# Altium footprint library SO.PcbLib: 10 footprints
Each footprint in its own frame and in the unit in brackets; x right, y up, seen from the top. Pads: shape width x height; smd on the part's side, far side on the other; paste and mask are expansions set on the pad; w line width, h text height; cw(c..) or ccw(c..) is an arc to the next point about the centre after c.
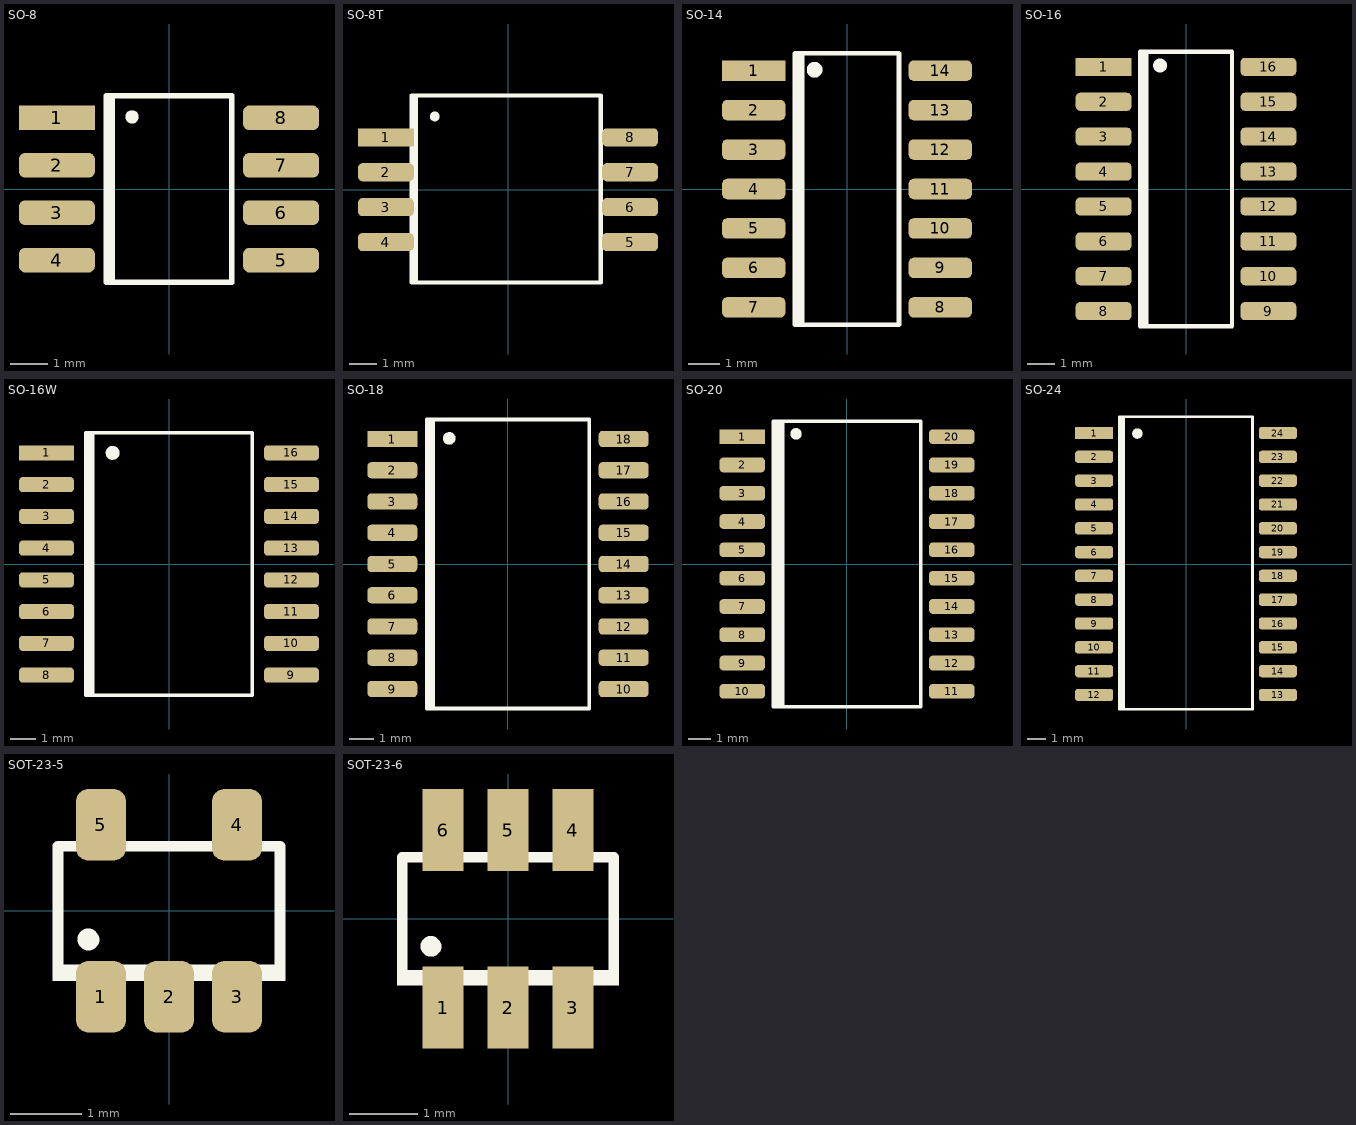
[diagram p0: the footprints below, top view; thin cyan lines are the x and y axes]

## SO-8 [mil]
pads (8):
  rect 80x26 smd: 1(-118.11,75)
  rrect50% 80x26 smd: 2(-118.11,25) 3(-118.11,-25) 4(-118.11,-75) 5(118.11,-75) 6(118.11,-25) 7(118.11,25) 8(118.11,75)
Top Overlay:
  circle w10: c-39,76 r2
  rectangle: -66,-98.43 -57,98.43
  lines w6: -66,-98.43 66,-98.43 66,98.43 -66,98.43 -66,-98.43
3D body: height 67.91, standoff -1.51, extent -120.8,-96.26 120.81,96.26

## SO-8T [mil]
pads (8):
  rect 80x26 smd: 1(-175,75)
  rrect50% 80x26 smd: 2(-175,25) 3(-175,-25) 4(-175,-75) 5(175,-75) 6(175,-25) 7(175,25) 8(175,75)
Top Overlay:
  circle w10: c-105,105 r2
  rectangle: -138,-133 -129,135
  lines w6: -138,-133 -138,135 133,135 133,-133 -138,-133
3D body: height 110.24, standoff 0, extent -204.24,-150.59 204.25,150.6

## SO-14 [mil]
pads (14):
  rect 80x26 smd: 1(-118.11,150)
  rrect50% 80x26 smd: 2(-118.11,100) 3(-118.11,50) 4(-118.11,0) 5(-118.11,-50) 6(-118.11,-100) 7(-118.11,-150) 8(118.11,-150) 9(118.11,-100) 10(118.11,-50) 11(118.11,0) 12(118.11,50) 13(118.11,100) 14(118.11,150)
Top Overlay:
  circle w10: c-41,151 r5
  rectangle: -66,-171.05 -54,173.05
  lines w6: -66,-172.05 -66,-85.02 -66,87.02 -66,172.05 66,172.05 66,-172.05 -66,-172.05
3D body: height 67.91, standoff -1.51, extent -120.8,-171.26 120.81,171.26

## SO-16 [mil]
pads (16):
  rect 80x26 smd: 1(-118.11,175)
  rrect50% 80x26 smd: 2(-118.11,125) 3(-118.11,75) 4(-118.11,25) 5(-118.11,-25) 6(-118.11,-75) 7(-118.11,-125) 8(-118.11,-175) 9(118.11,-175) 10(118.11,-125) 11(118.11,-75) 12(118.11,-25) 13(118.11,25) 14(118.11,75) 15(118.11,125) 16(118.11,175)
Top Overlay:
  circle w10: c-37,177 r5
  rectangle: -66,-197 -54,196.85
  lines w6: -66,-196.85 -66,196.85 66,196.85 66,-196.85 -66,-196.85
3D body: height 67.91, standoff -1.51, extent -120.8,-196.26 120.81,196.26

## SO-16W [mm]
pads (16):
  rect 2.2x0.6 smd: 1(-4.9,4.445)
  rrect50% 2.2x0.6 smd: 2(-4.9,3.175) 3(-4.9,1.905) 4(-4.9,0.635) 5(-4.9,-0.635) 6(-4.9,-1.905) 7(-4.9,-3.175) 8(-4.9,-4.445) 9(4.9,-4.445) 10(4.9,-3.175) 11(4.9,-1.905) 12(4.9,-0.635) 13(4.9,0.635) 14(4.9,1.905) 15(4.9,3.175) 16(4.9,4.445)
Top Overlay:
  circle w0.152: c-2.256,4.445 r0.072
  circle w0.152: c-2.256,4.445 r0.203
  rectangle: -3.327,-5.25 -2.972,5.25
  lines w0.152: -3.327,-5.25 -3.327,5.25 3.327,5.25 3.327,-5.25 -3.327,-5.25
3D body: height 2.62, standoff -0.03, extent -5.315,-5.25 5.315,5.25

## SO-18 [mil]
pads (18):
  rect 80x26 smd: 1(-185.04,200)
  rrect50% 80x26 smd: 2(-185.04,150) 3(-185.04,100) 4(-185.04,50) 5(-185.04,0) 6(-185.04,-50) 7(-185.04,-100) 8(-185.04,-150) 9(-185.04,-200) 10(185.04,-200) 11(185.04,-150) 12(185.04,-100) 13(185.04,-50) 14(185.04,0) 15(185.04,50) 16(185.04,100) 17(185.04,150) 18(185.04,200)
Top Overlay:
  circle w6: c-94,200 r2.83
  circle w6: c-94,201 r7.07
  rectangle: -130,-231.3 -117,231.3
  lines w6: -130,-231.3 -130,231.3 130,231.3 130,-231.3 -130,-231.3
3D body: height 104.33, standoff 0, extent -202.75,-226.97 202.76,226.97

## SO-20 [mil]
pads (20):
  rect 80x26 smd: 1(-185.04,225)
  rrect50% 80x26 smd: 2(-185.04,175) 3(-185.04,125) 4(-185.04,75) 5(-185.04,25) 6(-185.04,-25) 7(-185.04,-75) 8(-185.04,-125) 9(-185.04,-175) 10(-185.04,-225) 11(185.04,-225) 12(185.04,-175) 13(185.04,-125) 14(185.04,-75) 15(185.04,-25) 16(185.04,25) 17(185.04,75) 18(185.04,125) 19(185.04,175) 20(185.04,225)
Top Overlay:
  circle w10: c-90,230 r5
  rectangle: -130,-251.97 -110,251.97
  lines w6: -130,-251.97 -130,251.97 130,251.97 130,-251.97 -130,-251.97
3D body: height 106.3, standoff 0, extent -202.75,-251.96 202.76,251.97

## SO-24 [mil]
pads (24):
  rect 80x26 smd: 1(-192.91,275)
  rrect50% 80x26 smd: 2(-192.91,225) 3(-192.91,175) 4(-192.91,125) 5(-192.91,75) 6(-192.91,25) 7(-192.91,-25) 8(-192.91,-75) 9(-192.91,-125) 10(-192.91,-175) 11(-192.91,-225) 12(-192.91,-275) 13(192.91,-275) 14(192.91,-225) 15(192.91,-175) 16(192.91,-125) 17(192.91,-75) 18(192.91,-25) 19(192.91,25) 20(192.91,75) 21(192.91,125) 22(192.91,175) 23(192.91,225) 24(192.91,275)
Top Overlay:
  circle w6: c-102,274 r2.83
  circle w6: c-102,274 r8.06
  rectangle: -140,-305 -128,309.21
  lines w6: -140,-305 -140,309.21 140,309.21 140,-305 -140,-305
3D body: height 104.33, standoff 0, extent -208.66,-307.09 208.67,307.09

## SOT-23-5 [mm]
pads (5):
  rrect50% 0.7x1 smd: 1(-0.95,-1.2) 2(0,-1.2) 3(0.95,-1.2) 4(0.95,1.2) 5(-0.95,1.2)
Top Overlay:
  region: 1.625,-0.979 1.625,-0.75 -1.625,-0.75 -1.625,-0.979
  lines w0.152: -1.55,-0.9 -1.55,0.9 1.55,0.9 1.55,-0.9
  lines w0.254: -1.119,-0.375 ccw(c-1.125,-0.4) -1.1,-0.4
3D body: height 1.05, standoff -0.05, extent -1.5,-1.25 1.5,1.25

## SOT-23-6 [mm]
pads (6):
  rect 0.6x1.2 smd: 1(-0.95,-1.3) 2(0,-1.3) 3(0.95,-1.3) 4(0.95,1.3) 5(0,1.3) 6(-0.95,1.3)
Top Overlay:
  region: 1.625,-0.979 1.625,-0.75 -1.625,-0.75 -1.625,-0.979
  lines w0.152: -1.55,-0.9 -1.55,0.9 1.55,0.9 1.55,-0.9
  lines w0.254: -1.119,-0.375 ccw(c-1.125,-0.4) -1.1,-0.4
3D body: height 1.3, standoff 0, extent -1.5,-1.5 1.5,1.5